# Altium schematic symbol library CAPACITOR_SCH.Schlib: 1 symbol
Pins are listed as number, name and electrical type; pins without a type are passive.

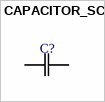
[diagram p0: symbol CAPACITOR_SCH]

## CAPACITOR_SCH
designator C?
pins: 1 C1, 2 C2